# EAGLE library part PINHDR_12 (library pinhdr_13)
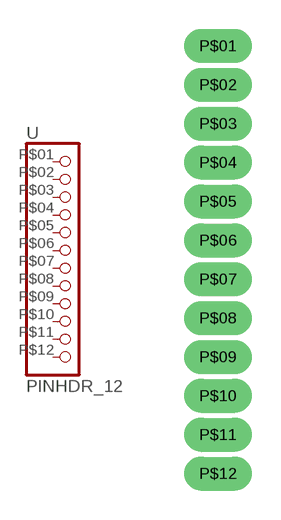
[diagram p42: symbol with the pads of PINHDR_12; footprint PINHDR_12]

Designator prefix -

## PINHDR_12  [PINHDR_12]
P$01  1  pas
P$02  2  pas
P$03  3  pas
P$04  4  pas
P$05  5  pas
P$06  6  pas
P$07  7  pas
P$08  8  pas
P$09  9  pas
P$10  10  pas
P$11  11  pas
P$12  12  pas

## Footprint PINHDR_12 (pad centres in mm)
drill 0.6 pad 1.016 long: P$01 0,7.62; P$02 0,6.35; P$03 0,5.08; P$04 0,3.81; P$05 0,2.54; P$06 0,1.27; P$07 0,0; P$08 0,-1.27; P$09 0,-2.54; P$10 0,-3.81; P$11 0,-5.08; P$12 0,-6.35